# Altium footprint library 581-01-60-006.PcbLib: 1 footprints
Each footprint in its own frame and in the unit in brackets; x right, y up, seen from the top. Pads: shape width x height; smd on the part's side, far side on the other; paste and mask are expansions set on the pad; w line width, h text height; cw(c..) or ccw(c..) is an arc to the next point about the centre after c.
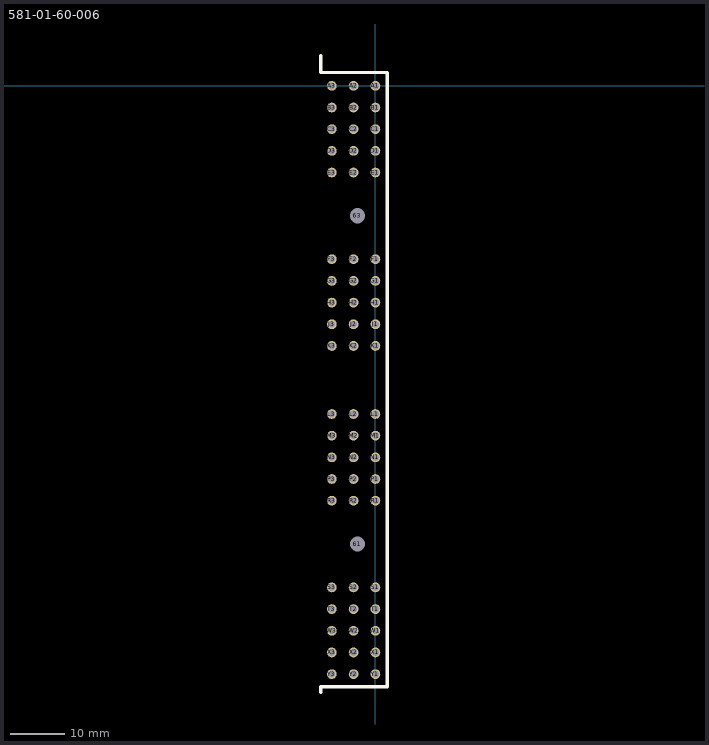
[diagram p0: the footprint, top view; thin cyan lines are the x and y axes]

## 581-01-60-006 [mil] "Cinch 60 Pin Connector 581-01-60-006"
height 285
pads (62):
  round 70 hole 110: 61(-129,-3298) 63(-129,-936)
  round 70 hole 50: A1(0,0) A2(-157,0) A3(-314,0) B1(0,-156) B2(-157,-156) B3(-314,-156) C1(0,-312) C2(-157,-312) C3(-314,-312) D1(0,-468) D2(-157,-468) D3(-314,-468) E1(0,-624) E2(-157,-624) E3(-314,-624) F1(0,-1248) F2(-157,-1248) F3(-314,-1248) G1(0,-1404) G2(-157,-1404) G3(-314,-1404) H1(0,-1560) H2(-157,-1560) H3(-314,-1560) J1(0,-1716) J2(-157,-1716) J3(-314,-1716) K1(0,-1872) K2(-157,-1872) K3(-314,-1872) L1(0,-2362) L2(-157,-2362) L3(-314,-2362) M1(0,-2518) M2(-157,-2518) M3(-314,-2518) N1(0,-2674) N2(-157,-2674) N3(-314,-2674) P1(0,-2830) P2(-157,-2830) P3(-314,-2830) R1(0,-2986) R2(-157,-2986) R3(-314,-2986) S1(0,-3610) S2(-157,-3610) S3(-314,-3610) T1(0,-3766) T2(-157,-3766) T3(-314,-3766) W1(0,-3922) W2(-157,-3922) W3(-314,-3922) X1(0,-4078) X2(-157,-4078) X3(-314,-4078) Y1(0,-4234) Y2(-157,-4234) Y3(-314,-4234)
TopOverlay:
  lines w24: -394,-4364 -394,-4324 86,-4324 86,96 -394,96 -394,216
3D body: height 1687.5, standoff -317.5, extent -1588,-5710 103.85,1480